# Altium schematic symbol library Capacitor.SchLib: 79 symbols
Pins are listed as number, name and electrical type; pins without a type are passive.

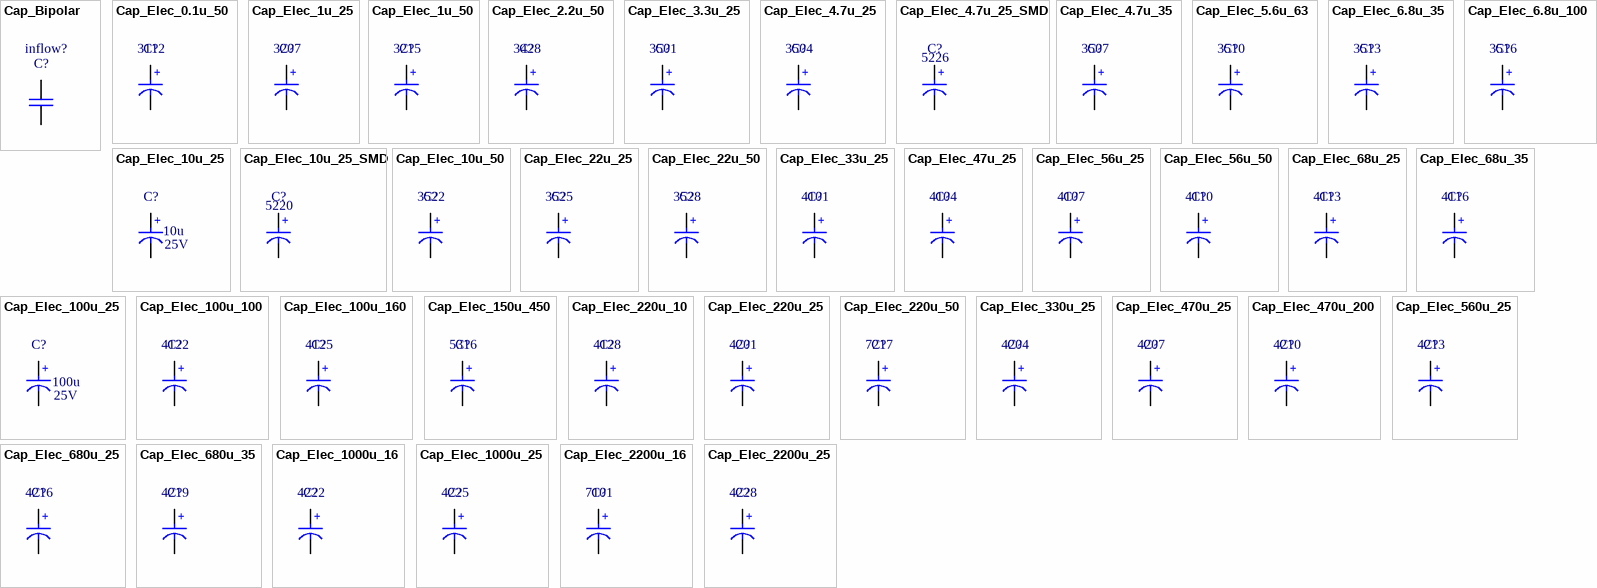
[diagram p0: symbols Cap_Bipolar to Cap_Elec_2200u_25]

## Cap_Bipolar
designator C?, comment Inflow: inflow?  (hidden comment: Value?)
Bipolar Capacitor; Rating: Rating?; Type: Type?; Validation: NT; Value: Value?; Package: Package?
footprint Cap 1uF-400v-Right
footprint Cap 1uF-400V-Stand
footprint Cap 10nF
footprint Cap_680nF
footprint CAPP 1206 (3216X18L) Size A (Chip Capacitor, 2-Leads, Body 3.2x1.6mm, IPC High Density, chip Tantalum)
footprint Cap - 10nF - 630V
footprint Cap - 100nF - 400V
footprint Cap - 220n - 400V - Poly
footprint Cap - 330nF - 400V
pins: 1, 2

## Cap_Elec_0.1u_50
designator C?, comment Inflow: 3112  (hidden comment: 0.1u'F, 50'V)
Electrolit Capacitor; Rating: Rating?; Type: Type?; Validation: NT; Value: 0.1u'F, 50'V; Package: Package?
footprint cap 00 (diameter: 4'mm)
footprint Cap electrolitic radial 4x7-1.5 (Cap electrolitic radial 5x11-2-Design:Ali Hafizi)
pins: 1 +, 2 -

## Cap_Elec_1u_25
designator C?, comment Inflow: 3207  (hidden comment: 1u'F, 25'V)
Electrolit Capacitor; Rating: Rating?; Type: Type?; Validation: NT; Value: 1u'F, 25'V; Package: Package?
footprint Cap electrolitic radial 5x11-2 (Cap electrolitic radial 5x11-2-Design:Abbas Basereh)
pins: 1 +, 2 -

## Cap_Elec_1u_50
designator C?, comment Inflow: 3215  (hidden comment: 1u'F, 50'V)
Electrolit Capacitor; Rating: Rating?; Type: Type?; Validation: NT; Value: 1u'F, 50'V; Package: Package?
footprint Cap electrolitic radial 5x12-2 (Cap electrolitic radial 5x12-2-Design:Abbas Basereh)
pins: 1 +, 2 -

## Cap_Elec_2.2u_50
designator C?, comment Inflow: 3428  (hidden comment: 2.2u'F, 50'V)
Electrolit Capacitor; Rating: Rating?; Type: Type?; Validation: NT; Value: 2.2u'F, 50'V; Package: Package?
footprint Cap electrolitic radial 5x11-2 (Cap electrolitic radial 5x11-2-Design:Abbas Basereh)
pins: 1 +, 2 -

## Cap_Elec_3.3u_25
designator C?, comment Inflow: 3501  (hidden comment: 3.3u'F, 25'V)
Electrolit Capacitor; Rating: Rating?; Type: Type?; Validation: NT; Value: 3.3u'F, 25'V; Package: Package?
footprint cap 00 (diameter: 4'mm)
footprint Cap electrolitic radial 4x7-1.5 (Cap electrolitic radial 5x11-2-Design:Ali Hafizi)
pins: 1 +, 2 -

## Cap_Elec_4.7u_25
designator C?, comment Inflow: 3504  (hidden comment: 4.7u'F, 25'V)
Electrolit Capacitor; Rating: Rating?; Type: Type?; Validation: NT; Value: 4.7u'F, 25'V; Package: Package?
footprint Cap electrolitic radial 5x11-2 (Cap electrolitic radial 5x11-2-Design:Abbas Basereh)
footprint Cap electrolitic radial 4x7-1.5 (Cap electrolitic radial 5x11-2-Design:Ali Hafizi)
footprint Cap 00 (diameter: 4'mm)
pins: 1 +, 2 -

## Cap_Elec_4.7u_25_SMD
designator C?, comment Inflow: 5226  (hidden comment: 4.7u'F, 35'V)
Electrolit Capacitor SMD; Rating: Rating?; Type: Type?; Validation: Valid; Value: 4.7u'F, 35'V; Package: Package?
footprint CAP ALUM 5MM (Aluminum Electrolytic Capacitor, Body 6.60x6.60x7.70mm, IPC Low Density)
pins: 1 +, 2 -

## Cap_Elec_4.7u_35
designator C?, comment Inflow: 3507  (hidden comment: 4.7u'F, 35'V)
Electrolit Capacitor; Rating: Rating?; Type: Type?; Validation: NT; Value: 4.7u'F, 35'V; Package: Package?
footprint Cap electrolitic radial 5x11-2 (Cap electrolitic radial 5x11-2-Design:Abbas Basereh)
pins: 1 +, 2 -

## Cap_Elec_5.6u_63
designator C?, comment Inflow: 3510  (hidden comment: 5.6u'F, 63'V)
Electrolit Capacitor; Rating: Rating?; Type: Type?; Validation: NT; Value: 5.6u'F, 63'V; Package: Package?
footprint Cap electrolitic radial 5x11-2 (Cap electrolitic radial 5x11-2-Design:Abbas Basereh)
pins: 1 +, 2 -

## Cap_Elec_6.8u_35
designator C?, comment Inflow: 3513  (hidden comment: 6.8u'F, 35'V)
Electrolit Capacitor; Rating: Rating?; Type: Type?; Validation: NT; Value: 6.8u'F, 35'V; Package: Package?
footprint cap 00 (diameter: 4'mm)
footprint Cap electrolitic radial 4x7-1.5 (Cap electrolitic radial 5x11-2-Design:Ali Hafizi)
pins: 1 +, 2 -

## Cap_Elec_6.8u_100
designator C?, comment Inflow: 3516  (hidden comment: 6.8u'F, 100'V)
Electrolit Capacitor; Rating: Rating?; Type: Type?; Validation: NT; Value: 6.8u'F, 100'V; Package: Package?
footprint Cap electrolitic radial 5x11-2 (Cap electrolitic radial 5x11-2-Design:Abbas Basereh)
pins: 1 +, 2 -

## Cap_Elec_10u_25
designator C?, comment Rating: 25V  (hidden comment: 10u)
Electrolit Capacitor; Type: Electrolyte; Inflow: 3519; Validation: NT; Package: Dip; Value: 10u
footprint cap 00 (diameter: 4'mm)
footprint Cap electrolitic radial 4x7-1.5 (Cap electrolitic radial 5x11-2-Design:Ali Hafizi)
pins: 1 +, 2 -

## Cap_Elec_10u_25_SMD
designator C?, comment Inflow: 5220  (hidden comment: 10u'F, 25'V)
Electrolit Capacitor SMD; Rating: Rating?; Type: Type?; Validation: Valid; Value: 10u'F, 25'V; Package: Package?
footprint CAP ALUM 5MM (Aluminum Electrolytic Capacitor, Body 6.60x6.60x7.70mm, IPC Low Density)
pins: 1 +, 2 -

## Cap_Elec_10u_50
designator C?, comment Inflow: 3522  (hidden comment: 10u'F, 50'V)
Electrolit Capacitor; Rating: Rating?; Type: Type?; Validation: NT; Value: 10u'F, 50'V; Package: Package?
footprint Cap electrolitic radial 5x12-2 (Cap electrolitic radial 5x12-2-Design:Abbas Basereh)
pins: 1 +, 2 -

## Cap_Elec_22u_25
designator C?, comment Inflow: 3525  (hidden comment: 22u'F, 25'V)
Electrolit Capacitor; Rating: Rating?; Type: Type?; Validation: NT; Value: 22u'F, 25'V; Package: Package?
footprint Cap electrolitic radial 5x11-2 (Cap electrolitic radial 5x11-2-Design:Abbas Basereh)
pins: 1 +, 2 -

## Cap_Elec_22u_50
designator C?, comment Inflow: 3528  (hidden comment: 22u'F, 50'V)
Electrolit Capacitor; Rating: Rating?; Type: Type?; Validation: NT; Value: 22u'F, 50'V; Package: Package?
footprint Cap electrolitic radial 5x12-2 (Cap electrolitic radial 5x12-2-Design:Abbas Basereh)
pins: 1 +, 2 -

## Cap_Elec_33u_25
designator C?, comment Inflow: 4101  (hidden comment: 33u'F, 25'V)
Electrolit Capacitor; Rating: Rating?; Type: Type?; Validation: NT; Value: 33u'F, 25'V; Package: Package?
footprint Cap electrolitic radial 5x12-2 (Cap electrolitic radial 5x12-2-Design:Abbas Basereh)
pins: 1 +, 2 -

## Cap_Elec_47u_25
designator C?, comment Inflow: 4104  (hidden comment: 47u'F, 25'V)
Electrolit Capacitor; Rating: Rating?; Type: Type?; Validation: NT; Value: 47u'F, 25'V; Package: Package?
footprint Cap_2_(2.5mm) (Capacitor, Electrolytic, Radial; Body 6.3 x 6.8 mm (Dia.xH typ); Pin Spacing 2.5 mm (typ))
pins: 1 +, 2 -

## Cap_Elec_56u_25
designator C?, comment Inflow: 4107  (hidden comment: 56u'F, 25'V)
Electrolit Capacitor; Rating: Rating?; Type: Type?; Validation: NT; Value: 56u'F, 25'V; Package: Package?
footprint Cap_2_(2.5mm) (Capacitor, Electrolytic, Radial; Body 6.3 x 6.8 mm (Dia.xH typ); Pin Spacing 2.5 mm (typ))
pins: 1 +, 2 -

## Cap_Elec_56u_50
designator C?, comment Inflow: 4110  (hidden comment: 56u'F, 50'V)
Electrolit Capacitor; Rating: Rating?; Type: Type?; Validation: NT; Value: 56u'F, 50'V; Package: Package?
footprint Cap_2_(2.5mm) (Capacitor, Electrolytic, Radial; Body 6.3 x 6.8 mm (Dia.xH typ); Pin Spacing 2.5 mm (typ))
pins: 1 +, 2 -

## Cap_Elec_68u_25
designator C?, comment Inflow: 4113  (hidden comment: 68u'F, 25'V)
Electrolit Capacitor; Rating: Rating?; Type: Type?; Validation: NT; Value: 68u'F, 25'V; Package: Package?
footprint Cap_2_(2.5mm) (Capacitor, Electrolytic, Radial; Body 6.3 x 6.8 mm (Dia.xH typ); Pin Spacing 2.5 mm (typ))
pins: 1 +, 2 -

## Cap_Elec_68u_35
designator C?, comment Inflow: 4116  (hidden comment: 68u'F, 35'V)
Electrolit Capacitor; Rating: Rating?; Type: Type?; Validation: NT; Value: 68u'F, 35'V; Package: Package?
footprint Cap_2_(2.5mm) (Capacitor, Electrolytic, Radial; Body 6.3 x 6.8 mm (Dia.xH typ); Pin Spacing 2.5 mm (typ))
pins: 1 +, 2 -

## Cap_Elec_100u_25
designator C?, comment Rating: 25V  (hidden comment: 100u)
Electrolit Capacitor; Type: Electrolyte; Inflow: 4119; Validation: NT; Package: Dip; Value: 100u
footprint Cap_2_(2.5mm) (Capacitor, Electrolytic, Radial; Body 6.3 x 6.8 mm (Dia.xH typ); Pin Spacing 2.5 mm (typ))
footprint Cap electrolitic radial 10x16-5 (Cap electrolitic radial 10x16-5-Design:Abbas Basereh)
pins: 1 +, 2 -

## Cap_Elec_100u_100
designator C?, comment Inflow: 4122  (hidden comment: 100u'F, 100'V)
Electrolit Capacitor; Rating: Rating?; Type: Type?; Validation: NT; Value: 100u'F, 100'V; Package: Package?
footprint Cap electrolitic radial 13x25-5 (Cap electrolitic radial 13x25-5-Design:Abbas Basereh)
pins: 1 +, 2 -

## Cap_Elec_100u_160
designator C?, comment Inflow: 4125  (hidden comment: 100u'F, 160'V)
Electrolit Capacitor; Rating: Rating?; Type: Type?; Validation: NT; Value: 100u'F, 160'V; Package: Package?
footprint Cap electrolitic radial 13x25-5 (Cap electrolitic radial 13x25-5-Design:Abbas Basereh)
footprint Cap 05 (diameter: 16'mm)
pins: 1 +, 2 -

## Cap_Elec_150u_450
designator C?, comment Inflow: 5316  (hidden comment: 150u'F, 450'V)
Electrolit Capacitor; Rating: Rating?; Type: Type?; Validation: NT; Value: 150u'F, 450'V; Package: Package?
footprint WCAP-AI3H 25x36x10 (Polarized capacitors, Aluminum Electrolytic Capacitors, 2-Leads, Body 25x36x10)
pins: 1 +, 2 -

## Cap_Elec_220u_10
designator C?, comment Inflow: 4128  (hidden comment: 220u'F, 10'V)
Electrolit Capacitor; Rating: Rating?; Type: Type?; Validation: NT; Value: 220u'F, 10'V; Package: Package?
footprint Cap electrolitic radial 5x11-2 (Cap electrolitic radial 5x11-2-Design:Abbas Basereh)
pins: 1 +, 2 -

## Cap_Elec_220u_25
designator C?, comment Inflow: 4201  (hidden comment: 220u'F, 25'V)
Electrolit Capacitor; Rating: Rating?; Type: Type?; Validation: NT; Value: 220u'F, 25'V; Package: Package?
footprint Cap 03 (diameter: 8'mm)
footprint Cap 04 (diameter: 10'mm)
pins: 1 +, 2 -

## Cap_Elec_220u_50
designator C?, comment Inflow: 7217  (hidden comment: 220u'F, 50'V)
Electrolit Capacitor; Rating: Rating?; Type: Type?; Validation: NT; Value: 220u'F, 50'V; Package: Package?
footprint Cap electrolitic radial 10x16-5 (Cap electrolitic radial 10x16-5-Design:Abbas Basereh)
pins: 1 +, 2 -

## Cap_Elec_330u_25
designator C?, comment Inflow: 4204  (hidden comment: 330u'F, 25'V)
Electrolit Capacitor; Rating: Rating?; Type: Type?; Validation: NT; Value: 330u'F, 25'V; Package: Package?
footprint Cap 03 (diameter: 8'mm)
footprint Cap 04 (diameter: 10'mm)
pins: 1 +, 2 -

## Cap_Elec_470u_25
designator C?, comment Inflow: 4207  (hidden comment: 470u'F, 25'V)
Electrolit Capacitor; Rating: Rating?; Type: Type?; Validation: NT; Value: 470u'F, 25'V; Package: Package?
footprint Cap 03 (diameter: 8'mm)
footprint Cap 04 (diameter: 10'mm)
pins: 1 +, 2 -

## Cap_Elec_470u_200
designator C?, comment Inflow: 4210  (hidden comment: 470u'F, 200'V)
Electrolit Capacitor; Rating: Rating?; Type: Type?; Validation: NT; Value: 470u'F, 200'V; Package: Package?
footprint Cap electrolitic radial 18x36-7.5 (Cap electrolitic radial 18x36-7.5-Design:Abbas Basereh)
pins: 1 +, 2 -

## Cap_Elec_560u_25
designator C?, comment Inflow: 4213  (hidden comment: 560u'F, 25'V)
Electrolit Capacitor; Rating: Rating?; Type: Type?; Validation: NT; Value: 560u'F, 25'V; Package: Package?
footprint Cap 03 (diameter: 8'mm)
footprint Cap electrolitic radial 10x25-5 (Cap electrolitic radial 10x25-5-Design:Abbas Basereh)
pins: 1 +, 2 -

## Cap_Elec_680u_25
designator C?, comment Inflow: 4216  (hidden comment: 680u'F, 25'V)
Electrolit Capacitor; Rating: Rating?; Type: Type?; Validation: NT; Value: 680u'F, 25'V; Package: Package?
footprint Cap electrolitic radial 10x20-5 (Cap electrolitic radial 10x20-5-Design:Abbas Basereh)
pins: 1 +, 2 -

## Cap_Elec_680u_35
designator C?, comment Inflow: 4219  (hidden comment: 680u'F, 35'V)
Electrolit Capacitor; Rating: Rating?; Type: Type?; Validation: NT; Value: 680u'F, 35'V; Package: Package?
footprint Cap electrolitic radial 13x25-5 (Cap electrolitic radial 13x25-5-Design:Abbas Basereh)
pins: 1 +, 2 -

## Cap_Elec_1000u_16
designator C?, comment Inflow: 4222  (hidden comment: 1000u'F, 16'V)
Electrolit Capacitor; Rating: Rating?; Type: Type?; Validation: NT; Value: 1000u'F, 16'V; Package: Package?
footprint Cap 04 (diameter: 10'mm)
pins: 1 +, 2 -

## Cap_Elec_1000u_25
designator C?, comment Inflow: 4225  (hidden comment: 1000u'F, 25'V)
Electrolit Capacitor; Rating: Rating?; Type: Type?; Validation: NT; Value: 1000u'F, 25'V; Package: Package?
footprint Cap electrolitic radial 10x20-5 (Cap electrolitic radial 10x20-5-Design:Abbas Basereh)
pins: 1 +, 2 -

## Cap_Elec_2200u_16
designator C?, comment Inflow: 7101  (hidden comment: 2200u'F, 16'V)
Electrolit Capacitor; Rating: Rating?; Type: Type?; Validation: NT; Value: 2200u'F, 16'V; Package: Package?
footprint Cap electrolitic radial 10x20-5 (Cap electrolitic radial 10x20-5-Design:Abbas Basereh)
pins: 1 +, 2 -

## Cap_Elec_2200u_25
designator C?, comment Inflow: 4228  (hidden comment: 2200u'F, 25'V)
Electrolit Capacitor; Rating: Rating?; Type: Type?; Validation: NT; Value: 2200u'F, 25'V; Package: Package?
footprint Cap electrolitic radial 13x25-5 (Cap electrolitic radial 13x25-5-Design:Abbas Basereh)
pins: 1 +, 2 -

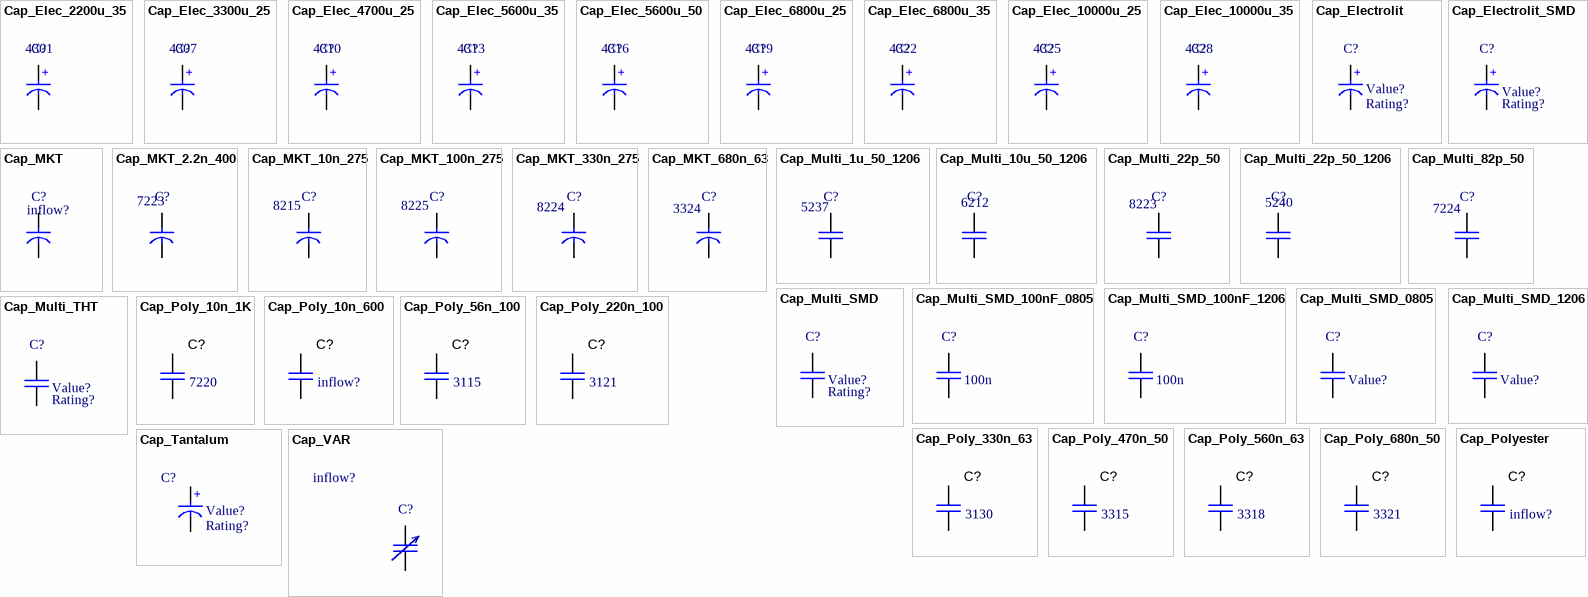
[diagram p1: symbols Cap_Elec_2200u_35 to Cap_VAR]

## Cap_Elec_2200u_35
designator C?, comment Inflow: 4301  (hidden comment: 2200u'F, 35'V)
Electrolit Capacitor; Rating: Rating?; Type: Type?; Validation: NT; Value: 2200u'F, 35'V; Package: Package?
footprint Cap electrolitic radial 16x31.5-7.5 (Cap electrolitic radial 16x31.5-7.5-Design:Abbas Basereh)
footprint Cap electrolitic radial 16x26-7.5 (Cap electrolitic radial 16x26-7.5-Design:Abbas Basereh)
pins: 1 +, 2 -

## Cap_Elec_3300u_25
designator C?, comment Inflow: 4307  (hidden comment: 3300u'F, 25'V)
Electrolit Capacitor; Rating: Rating?; Type: Type?; Validation: NT; Value: 3300u'F, 25'V; Package: Package?
footprint Cap electrolitic radial 16x26-7.5 (Cap electrolitic radial 16x26-7.5-Design:Abbas Basereh)
pins: 1 +, 2 -

## Cap_Elec_4700u_25
designator C?, comment Inflow: 4310  (hidden comment: 4700u'F, 25'V)
Electrolit Capacitor; Rating: Rating?; Type: Type?; Validation: NT; Value: 4700u'F, 25'V; Package: Package?
footprint Cap electrolitic radial 16x31.5-7.5 (Cap electrolitic radial 16x31.5-7.5-Design:Abbas Basereh)
pins: 1 +, 2 -

## Cap_Elec_5600u_35
designator C?, comment Inflow: 4313  (hidden comment: 5600u'F, 35'V)
Electrolit Capacitor; Rating: Rating?; Type: Type?; Validation: NT; Value: 5600u'F, 35'V; Package: Package?
footprint Cap electrolitic radial 18x40-7.5 (Cap electrolitic radial 18x40-7.5-Design:Abbas Basereh)
pins: 1 +, 2 -

## Cap_Elec_5600u_50
designator C?, comment Inflow: 4316  (hidden comment: 5600u'F, 50'V)
Electrolit Capacitor; Rating: Rating?; Type: Type?; Validation: NT; Value: 5600u'F, 50'V; Package: Package?
footprint WCAP-AI3H 25x36x10 (Polarized capacitors, Aluminum Electrolytic Capacitors, 2-Leads, Body 25x36x10)
pins: 1 +, 2 -

## Cap_Elec_6800u_25
designator C?, comment Inflow: 4319  (hidden comment: 6800u'F, 25'V)
Electrolit Capacitor; Rating: Rating?; Type: Type?; Validation: NT; Value: 6800u'F, 25'V; Package: Package?
footprint Cap electrolitic radial 16x31.5-7.5 (Cap electrolitic radial 16x31.5-7.5-Design:Abbas Basereh)
pins: 1 +, 2 -

## Cap_Elec_6800u_35
designator C?, comment Inflow: 4322  (hidden comment: 6800u'F, 35'V)
Electrolit Capacitor; Rating: Rating?; Type: Type?; Validation: NT; Value: 6800u'F, 35'V; Package: Package?
footprint Cap electrolitic radial 18x40-7.5 (Cap electrolitic radial 18x40-7.5-Design:Abbas Basereh)
pins: 1 +, 2 -

## Cap_Elec_10000u_25
designator C?, comment Inflow: 4325  (hidden comment: 10000u'F, 25'V)
Electrolit Capacitor; Rating: Rating?; Type: Type?; Validation: NT; Value: 10000u'F, 25'V; Package: Package?
footprint WCAP-AI3H 25x36x10 (Polarized capacitors, Aluminum Electrolytic Capacitors, 2-Leads, Body 25x36x10)
pins: 1 +, 2 -

## Cap_Elec_10000u_35
designator C?, comment Inflow: 4328  (hidden comment: 10000u'F, 35'V)
Electrolit Capacitor; Rating: Rating?; Type: Type?; Validation: NT; Value: 10000u'F, 35'V; Package: Package?
footprint WCAP-AI3H 25x36x10 (Polarized capacitors, Aluminum Electrolytic Capacitors, 2-Leads, Body 25x36x10)
pins: 1 +, 2 -

## Cap_Electrolit
designator C?, comment Rating: Rating?  (hidden comment: Value?)
Electrolit Capacitor; Inflow: inflow?; Validation: Valid; Package: Dip; Type: Electrolit; Value: Value?
footprint cap 00 (diameter: 4'mm)
footprint cap 01 (diameter: 5'mm)
footprint cap 02 (diameter: 7'mm)
footprint cap 03 (diameter: 8'mm)
footprint cap 04 (diameter: 10'mm)
footprint CAP 05 (diameter: 16'mm)
footprint Cap_1_(1.5mm) (Capacitor, Electrolytic, Radial; Body 5 x 6.8 mm (Dia.xH typ); Pin Spacing 2 mm (typ))
footprint Cap_2_(2.5mm) (Capacitor, Electrolytic, Radial; Body 6.3 x 6.8 mm (Dia.xH typ); Pin Spacing 2.5 mm (typ))
footprint Cap_3_(3.5mm) (Capacitor, Electrolytic, Radial; Body 8 x 5 mm (Dia.xH typ); Pin Spacing 3.5 mm (typ))
footprint Cap_4_(5mm) (Capacitor, Electrolytic, Radial; Body 10 x 5 mm (Dia.xH typ); Pin Spacing 5 mm (typ))
footprint Cap_5_(7.5mm) (Capacitor, Electrolytic, Radial; Body 16 x 25 mm (Dia.xH typ); Pin Spacing 7.5 mm (typ))
footprint Cap electrolitic radial 18x26 (Cap electrolitic radial 18x26-Design:Abbas Basereh)
footprint Cap electrolitic radial 5x11-2 (Cap electrolitic radial 5x11-2-Design:Abbas Basereh)
footprint Cap electrolitic radial 5x12-2 (Cap electrolitic radial 5x12-2-Design:Abbas Basereh)
footprint Cap electrolitic radial 6x7-2.5 (Cap electrolitic radial 6x7-2.5-Design:Abbas Basereh)
footprint Cap electrolitic radial 8x12-3.5 (Cap electrolitic radial 8x12-3.5-Design:Abbas Basereh)
footprint Cap electrolitic radial 8x14-3.5 (Cap electrolitic radial 8x14-3.5-Design:Abbas Basereh)
footprint Cap electrolitic radial 10x16-5 (Cap electrolitic radial 10x16-5-Design:Abbas Basereh)
footprint Cap electrolitic radial 10x20-5 (Cap electrolitic radial 10x20-5-Design:Abbas Basereh)
footprint Cap electrolitic radial 10x25-5 (Cap electrolitic radial 10x25-5-Design:Abbas Basereh)
footprint Cap electrolitic radial 10x30-5 (Cap electrolitic radial 10x30-5-Design:Abbas Basereh)
footprint Cap electrolitic radial 12.5x20-5 (Cap electrolitic radial 12.5x20-5-Design:Abbas Basereh)
footprint Cap electrolitic radial 12.5x25-5 (Cap electrolitic radial 12.5x25-5-Design:Abbas Basereh)
footprint Cap electrolitic radial 13x25-5 (Cap electrolitic radial 13x25-5-Design:Abbas Basereh)
footprint Cap electrolitic radial 16x26-7.5 (Cap electrolitic radial 16x26-7.5-Design:Abbas Basereh)
footprint Cap electrolitic radial 16x31.5-7.5 (Cap electrolitic radial 16x31.5-7.5-Design:Abbas Basereh)
footprint Cap electrolitic radial 18x26 (Cap electrolitic radial 18x26-Design:Abbas Basereh)
footprint Cap electrolitic radial 18x36-7.5 (Cap electrolitic radial 18x36-7.5-Design:Abbas Basereh)
footprint Cap electrolitic radial 18x40-7.5 (Cap electrolitic radial 18x40-7.5-Design:Abbas Basereh)
footprint RB.075/.2
footprint RB.1/.2
footprint RB.1/.25
footprint RB.1/.27
footprint RB.1/.3
footprint RB.15/.25
footprint RB.15/.3
footprint RB.15/.35
footprint RB.175/.35
footprint RB.2/.3
footprint RB.2/.35
footprint RB.2/.4
footprint RB.2/.5
footprint RB.2/.6
footprint RB7.6-15 (Polarized Capacitor (Radial); 2 Leads)
pins: 1 +, 2 -

## Cap_Electrolit_SMD
designator C?, comment Rating: Rating?  (hidden comment: Value?)
Electrolit Capacitor SMD; Inflow: inflow?; Validation: Valid; Type: Electrolit; Package: SMD; Value: Value?
footprint CAP ALUM 6.6MM (Aluminum Electrolytic Capacitor, Body 6.60x6.60x7.70mm, IPC Low Density)
footprint CAP ALUM 8.3MM (Aluminum Electrolytic Capacitor, Body 8.30x8.30x10.50mm, IPC Low Density)
footprint CAP ALUM 10.3MM (Aluminum Electrolytic Capacitor, Body 10.30x10.30x10.50mm, IPC Low Density)
footprint CAP ALUM 5MM (Aluminum Electrolytic Capacitor, Body 6.60x6.60x7.70mm, IPC Low Density)
footprint Cap_A (Capacitor, SM Tantalum; Body 3.2 x 1.6 mm (LxW typ))
footprint Cap_B (Capacitor, SM Tantalum; Body 3.5 x 2.8 mm (LxW typ))
footprint Cap_C (Capacitor, SM Tantalum; Body 6.0 x 3.2 mm (LxW typ))
footprint Cap_D (Capacitor, SM Tantalum; Body 7.3 x 4.3 mm (LxW typ))
footprint Cap_E (Capacitor, SM Tantalum; Body 7.3 x 6.0 mm (LxW typ))
footprint Cap_R (Capacitor, SM Tantalum; Body 2.0 x 1.3 mm (LxW typ))
footprint Cap_V (Capacitor, SM Tantalum; Body 7.3 x 4.3 mm (LxW typ))
footprint Cap_X (Capacitor, SM Tantalum; Body 7.3 x 4.3 mm (LxW typ))
footprint ECAP-B SIZE (Footprint For Panasonic Co.)
footprint ECAP-D SIZE (Footprint For Panasonic Co.)
footprint ECAP-F SIZE (Footprint For Panasonic Co.)
pins: 1 +, 2 -

## Cap_MKT
designator C?, comment Inflow: inflow?  (hidden comment: Value?)
MKT Capacitor; Rating: Rating?; Type: Type?; Validation: NT; Value: Value?; Package: Package?
footprint Poly Cap (Polypropylene, 18'mm, Capacitor Class X2)
footprint RAD-0.3 (Radial Cap, 11.5'mm, Thru-Hole; 2 Leads; 0.3 in Pin Spacing)
footprint RAD-0.2 (Radial Cap, 9'mm, Thru-Hole; 2 Leads; 0.2 in Pin Spacing)
footprint RAD-0.1 (Radial Cap, 5'mm, Thru-Hole; 2 Leads; 0.1 in Pin Spacing)
footprint RAD-0.4 (Radial Cap, 14'm, Thru-Hole; 2 Leads; 0.4 in Pin Spacing)
footprint Cap - 100nF - 2
pins: 1 +, 2 -

## Cap_MKT_2.2n_400
designator C?, comment Inflow: 7223  (hidden comment: 2.2n'F, 400'V)
MKT Capacitor; Rating: Rating?; Type: Type?; Validation: NT; Value: 2.2n'F, 400'V; Package: Package?
footprint Cap - 100nF - 2 (7'mm)
pins: 1 +, 2 -

## Cap_MKT_10n_275
designator C?, comment Inflow: 8215  (hidden comment: 10n'F, 275'V)
MKT Capacitor; Rating: Rating?; Type: Type?; Validation: NT; Value: 10n'F, 275'V; Package: Package?
footprint Poly Cap (Polypropylene, 18'mm, Capacitor Class X2)
pins: 1 +, 2 -

## Cap_MKT_100n_275
designator C?, comment Inflow: 8225  (hidden comment: 100n'F, 275'V)
MKT Capacitor; Rating: Rating?; Type: Type?; Validation: NT; Value: 100n'F, 275'V; Package: Package?
footprint Poly Cap (Polypropylene, 18'mm, Capacitor Class X2)
pins: 1 +, 2 -

## Cap_MKT_330n_275
designator C?, comment Inflow: 8224  (hidden comment: 330n'F, 275'V)
MKT Capacitor; Rating: Rating?; Type: Type?; Validation: NT; Value: 330n'F, 275'V; Package: Package?
footprint Poly Cap (Polypropylene, 18'mm, Capacitor Class X2)
pins: 1 +, 2 -

## Cap_MKT_680n_63
designator C?, comment Inflow: 3324  (hidden comment: 680n'F, 63'V)
MKT Capacitor; Rating: Rating?; Type: Type?; Validation: NT; Value: 680n'F, 63'V; Package: Package?
footprint Cap - 100nF - 2 (7'mm)
pins: 1 +, 2 -

## Cap_Multi_1u_50_1206
designator C?, comment Inflow: 5237  (hidden comment: 1u'F, 50'V)
Bipolar ceramic capacitor SMD; Rating: Rating?; Type: Type?; Validation: Valid; Value: 1u'F, 50'V; Package: Package?
footprint CAP 1206/3216 (Chip Capacitor, 2-Leads, Body 3.25x1.60mm, IPC Medium Density)
pins: 1, 2

## Cap_Multi_10u_50_1206
designator C?, comment Inflow: 6212  (hidden comment: 10u'F, 50'V)
Bipolar ceramic capacitor SMD; Rating: Rating?; Type: Type?; Validation: Valid; Value: 10u'F, 50'V; Package: Package?
footprint CAP 1206/3216 (Chip Capacitor, 2-Leads, Body 3.25x1.60mm, IPC Medium Density)
pins: 1, 2

## Cap_Multi_22p_50
designator C?, comment Inflow: 8223  (hidden comment: 22p'F, 50'V)
Multi layer capacitor; Rating: Rating?; Type: Type?; Validation: NT; Value: 22p'F, 50'V; Package: Package?
footprint Cap_multiLayer
pins: 1, 2

## Cap_Multi_22p_50_1206
designator C?, comment Inflow: 5240  (hidden comment: 22p'F, 50'V)
Bipolar ceramic capacitor SMD; Rating: Rating?; Type: Type?; Validation: Valid; Value: 22p'F, 50'V; Package: Package?
footprint CAP 1206/3216 (Chip Capacitor, 2-Leads, Body 3.25x1.60mm, IPC Medium Density)
pins: 1, 2

## Cap_Multi_82p_50
designator C?, comment Inflow: 7224  (hidden comment: 82p'F, 50'V)
Multi layer capacitor; Rating: Rating?; Type: Type?; Validation: NT; Value: 82p'F, 50'V; Package: Package?
footprint Cap_multiLayer
pins: 1, 2

## Cap_Multi_SMD
designator C?, comment Rating: Rating?  (hidden comment: Value?)
Bipolar ceramic capacitor SMD; Inflow: inflow?; Type: Type?; Validation: Valid; Package: Package?; Value: Value?
footprint CAP 0201/0603 (Chip Capacitor, 2-Leads, Body 0.60x0.30mm, IPC Medium Density)
footprint CAP 0402/1005 (Chip Capacitor, 2-Leads, Body 1.02x0.51mm, IPC Medium Density)
footprint CAP 0603/1608 (Chip Capacitor, 2-Leads, Body 1.60x0.80mm, IPC Medium Density)
footprint CAP 0805/2012 (Chip Capacitor, 2-Leads, Body 2.00x1.20mm, IPC Medium Density)
footprint CAP 1206/3216 (Chip Capacitor, 2-Leads, Body 3.25x1.60mm, IPC Medium Density)
footprint 1210_C (Capacitor)
footprint 1812_C (Surface mount capacitor 1812)
footprint 2512_C (Surface mount capacitor 2512)
pins: 1, 2

## Cap_Multi_SMD_100nF_0805
designator C?, comment 100n
Bipolar ceramic capacitor SMD; Inflow: inflow?; Type: MultiLayer; Rating: 50V; Validation: Valid; Package: 0805; Value: 100n
footprint CAP 0805/2012 (Chip Capacitor, 2-Leads, Body 2.00x1.20mm, IPC Medium Density)
pins: 1, 2

## Cap_Multi_SMD_100nF_1206
designator C?, comment 100n
Bipolar ceramic capacitor SMD; Type: MultiLayer; Inflow: inflow?; Rating: 50V; Validation: Valid; Package: 1206; Value: 100n
footprint CAP 1206/3216 (Chip Capacitor, 2-Leads, Body 3.25x1.60mm, IPC Medium Density)
pins: 1, 2

## Cap_Multi_SMD_0805
designator C?, comment Value?
Bipolar ceramic capacitor SMD; Inflow: inflow?; Type: MultiLayer; Rating: Rating?; Validation: Valid; Package: 0805; Value: Value?
footprint CAP 0805/2012 (Chip Capacitor, 2-Leads, Body 2.00x1.20mm, IPC Medium Density)
pins: 1, 2

## Cap_Multi_SMD_1206
designator C?, comment Value?
Bipolar ceramic capacitor SMD; Inflow: inflow?; Type: MultiLayer; Rating: Rating?; Validation: Valid; Package: 1206; Value: Value?
footprint CAP 1206/3216 (Chip Capacitor, 2-Leads, Body 3.25x1.60mm, IPC Medium Density)
pins: 1, 2

## Cap_Multi_THT
designator C?, comment Rating: Rating?  (hidden comment: Value?)
Multi layer capacitor; Inflow: inflow?; Type: Type?; Validation: Valid; Package: Package?; Value: Value?
footprint Cap_multiLayer
footprint Cap - 100nF
footprint Cap
pins: 1, 2

## Cap_Poly_10n_1K
designator C?, comment Inflow: 7220  (hidden comment: 10n'F, 1K'V)
Polyester Capacitor; Rating: Rating?; Type: Type?; Validation: NT; Value: 10n'F, 1K'V; Package: Package?
footprint Cap - 10nF - 630V (Body: 13'mm, Pin: 10'mm)
pins: 1, 2

## Cap_Poly_10n_600
designator C?, comment Inflow: inflow?  (hidden comment: 10n'F, 600'V)
Polyester Capacitor; Rating: Rating?; Type: Type?; Validation: NT; Value: 10n'F, 600'V; Package: Package?
footprint Cap - 220n - 400V - Poly (Body: 18'mm, Pin: 15.5'mm)
pins: 1, 2

## Cap_Poly_56n_100
designator C?, comment Inflow: 3115  (hidden comment: 56n'F, 100'V)
Polyester Capacitor; Rating: Rating?; Type: Type?; Validation: NT; Value: 56n'F, 100'V; Package: Package?
footprint Cap - 100nF - 400V (Body: 9'mm, Pin: 7.5'mm)
pins: 1, 2

## Cap_Poly_220n_100
designator C?, comment Inflow: 3121  (hidden comment: 220n'F, 100'V)
Polyester Capacitor; Rating: Rating?; Type: Type?; Validation: NT; Value: 220n'F, 100'V; Package: Package?
footprint CAPMF12.5x4.5x9.0x10mmLS (Body: 12.5'mm, Pin: 10'mm, 7.5'mm)
pins: 1, 2

## Cap_Poly_330n_63
designator C?, comment Inflow: 3130  (hidden comment: 330n'F, 63'V)
Polyester Capacitor; Rating: Rating?; Type: Type?; Validation: NT; Value: 330n'F, 63'V; Package: Package?
footprint Cap - 100nF - 400V (Body: 9'mm, Pin: 7.5'mm)
pins: 1, 2

## Cap_Poly_470n_50
designator C?, comment Inflow: 3315  (hidden comment: 470n'F, 50'V)
Polyester Capacitor; Rating: Rating?; Type: Type?; Validation: NT; Value: 470n'F, 50'V; Package: Package?
footprint Cap - 100nF - 400V (Body: 9'mm, Pin: 7.5'mm)
pins: 1, 2

## Cap_Poly_560n_63
designator C?, comment Inflow: 3318  (hidden comment: 560n'F, 63'V)
Polyester Capacitor; Rating: Rating?; Type: Type?; Validation: NT; Value: 560n'F, 63'V; Package: Package?
footprint Cap - 100nF - 400V (Body: 9'mm, Pin: 7.5'mm)
pins: 1, 2

## Cap_Poly_680n_50
designator C?, comment Inflow: 3321  (hidden comment: 680n'F, 50'V)
Polyester Capacitor; Rating: Rating?; Type: Type?; Validation: NT; Value: 680n'F, 50'V; Package: Package?
footprint Cap - 100nF - 400V (Body: 9'mm, Pin: 7.5'mm)
pins: 1, 2

## Cap_Polyester
designator C?, comment Inflow: inflow?  (hidden comment: Value?)
Polyester Capacitor; Rating: Rating?; Type: Type?; Validation: NT; Value: Value?; Package: Package?
footprint CAPMF12.5x4.5x9.0x10mmLS (Body: 12.5'mm, Pin: 10'mm, 7.5'mm)
footprint CBB22 (Buddy: 23'mm, Pin: 19'mm, 16'mm, 13'mm,)
footprint Cap 1uF-400v-Right (Body: 24'mm, Pin: 22'mm)
footprint Cap 1uF-400V-Stand (Body: 24'mm, Pin: 22'mm)
footprint Cap - 10nF - 630V (Body: 13'mm, Pin: 10'mm)
footprint Cap 10nF (Body: 8'mm, Pin: 5'mm)
footprint Cap - 100nF - 400V (Body: 9'mm, Pin: 7.5'mm)
footprint Cap - 220n - 400V - Poly (Body: 18'mm, Pin: 15.5'mm)
footprint Cap - 330nF - 400V (Body: 25'mm, Pin: 23'mm)
footprint RAD-0.1 (Radial Cap, 5'mm, Thru-Hole; 2 Leads; 0.1 in Pin Spacing)
footprint RAD-0.2 (Radial Cap, 9'mm, Thru-Hole; 2 Leads; 0.2 in Pin Spacing)
footprint RAD-0.3 (Radial Cap, 11.5'mm, Thru-Hole; 2 Leads; 0.3 in Pin Spacing)
footprint RAD-0.4 (Radial Cap, 14'm, Thru-Hole; 2 Leads; 0.4 in Pin Spacing)
footprint RAD-0.6
footprint RAD_A4 (Ceramic Capacitor)
footprint RAD_A5 (Ceramic Capacitor)
footprint RAD_A6 (Ceramic Capacitor)
pins: 1, 2

## Cap_Tantalum
designator C?, comment Rating: Rating?  (hidden comment: Value?)
Tantalum Capacitor,TAJ Series-SMD; Inflow: inflow?; Validation: Valid; Package: Package?; Type: Tantalum; Value: Value?
footprint SMT_C_Tantalum_A (Capacitor, SM Tantalum; Body 3.2 x 1.6 mm (LxW typ))
footprint SMT_C_Tantalum_B (Capacitor, SM Tantalum; Body 3.5 x 2.8 mm (LxW typ))
footprint SMT_C_Tantalum_C (Capacitor, SM Tantalum; Body 6.0 x 3.2 mm (LxW typ))
footprint SMT_C_Tantalum_D (Capacitor, SM Tantalum; Body 7.3 x 4.3 mm (LxW typ))
footprint SMT_C_Tantalum_E (Capacitor, SM Tantalum; Body 7.3 x 6.0 mm (LxW typ))
footprint SMT_C_Tantalum_R (Capacitor, SM Tantalum; Body 2.0 x 1.3 mm (LxW typ))
footprint SMT_C_Tantalum_S (Capacitor, SM Tantalum; Body 3.2 x 1.6 mm (LxW typ))
footprint SMT_C_Tantalum_T (Capacitor, SM Tantalum; Body 3.5 x 2.8 mm (LxW typ))
footprint SMT_C_Tantalum_U (Capacitor, SM Tantalum; Body 6.0 x 3.2 mm (LxW typ))
footprint SMT_C_Tantalum_V (Capacitor, SM Tantalum; Body 7.3 x 4.3 mm (LxW typ))
footprint SMT_C_Tantalum_X (Capacitor, SM Tantalum; Body 7.3 x 4.3 mm (LxW typ))
pins: 1 +, 2 -

## Cap_VAR
designator C?, comment Inflow: inflow?  (hidden comment: Value?)
Variable Capacitor; Rating: Rating?; Type: Type?; Validation: NT; Value: Value?; Package: Package?
footprint C VAR
pins: 1, 2